# Altium footprint library SnapEDApcb.PcbLib: 1 footprints
Each footprint in its own frame and in the unit in brackets; x right, y up, seen from the top. Pads: shape width x height; smd on the part's side, far side on the other; paste and mask are expansions set on the pad; w line width, h text height; cw(c..) or ccw(c..) is an arc to the next point about the centre after c.
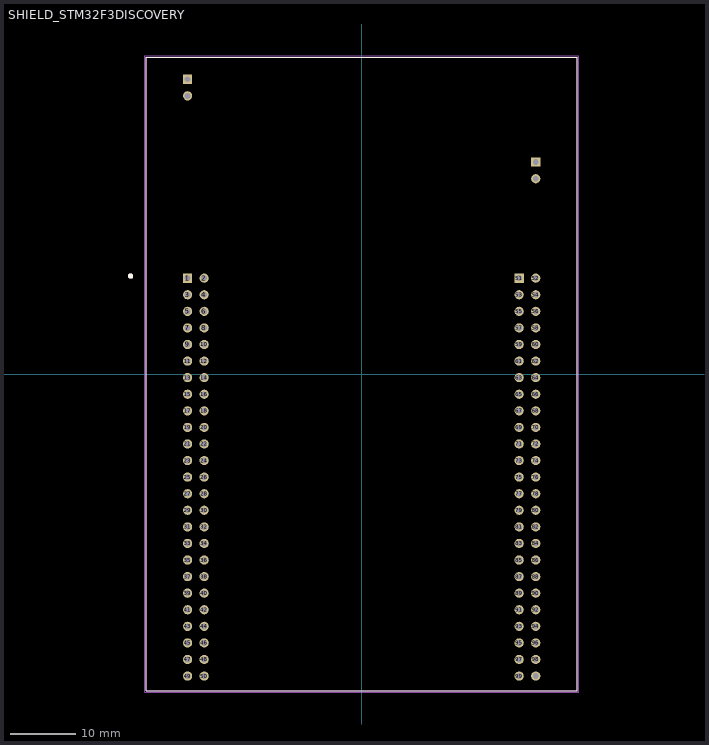
[diagram p0: the footprint, top view; thin cyan lines are the x and y axes]

## SHIELD_STM32F3DISCOVERY [mm]
pads (104):
  rect 1.408x1.408 hole 0.9: 1(-26.67,14.68) 51(24.13,14.68) 101(-26.67,45.16) 103(26.67,32.46)
  round 1.408 hole 0.9: 2(-24.13,14.68) 3(-26.67,12.14) 4(-24.13,12.14) 5(-26.67,9.6) 6(-24.13,9.6) 7(-26.67,7.06) 8(-24.13,7.06) 9(-26.67,4.52) 10(-24.13,4.52) 11(-26.67,1.98) 12(-24.13,1.98) 13(-26.67,-0.56) 14(-24.13,-0.56) 15(-26.67,-3.1) 16(-24.13,-3.1) 17(-26.67,-5.64) 18(-24.13,-5.64) 19(-26.67,-8.18) 20(-24.13,-8.18) 21(-26.67,-10.72) 22(-24.13,-10.72) 23(-26.67,-13.26) 24(-24.13,-13.26) 25(-26.67,-15.8) 26(-24.13,-15.8) 27(-26.67,-18.34) 28(-24.13,-18.34) 29(-26.67,-20.88) 30(-24.13,-20.88) 31(-26.67,-23.42) 32(-24.13,-23.42) 33(-26.67,-25.96) 34(-24.13,-25.96) 35(-26.67,-28.5) 36(-24.13,-28.5) 37(-26.67,-31.04) 38(-24.13,-31.04) 39(-26.67,-33.58) 40(-24.13,-33.58) 41(-26.67,-36.12) 42(-24.13,-36.12) 43(-26.67,-38.66) 44(-24.13,-38.66) 45(-26.67,-41.2) 46(-24.13,-41.2) 47(-26.67,-43.74) 48(-24.13,-43.74) 49(-26.67,-46.28) 50(-24.13,-46.28) 52(26.67,14.68) 53(24.13,12.14) 54(26.67,12.14) 55(24.13,9.6) 56(26.67,9.6) 57(24.13,7.06) 58(26.67,7.06) 59(24.13,4.52) 60(26.67,4.52) 61(24.13,1.98) 62(26.67,1.98) 63(24.13,-0.56) 64(26.67,-0.56) 65(24.13,-3.1) 66(26.67,-3.1) 67(24.13,-5.64) 68(26.67,-5.64) 69(24.13,-8.18) 70(26.67,-8.18) 71(24.13,-10.72) 72(26.67,-10.72) 73(24.13,-13.26) 74(26.67,-13.26) 75(24.13,-15.8) 76(26.67,-15.8) 77(24.13,-18.34) 78(26.67,-18.34) 79(24.13,-20.88) 80(26.67,-20.88) 81(24.13,-23.42) 82(26.67,-23.42) 83(24.13,-25.96) 84(26.67,-25.96) 85(24.13,-28.5) 86(26.67,-28.5) 87(24.13,-31.04) 88(26.67,-31.04) 89(24.13,-33.58) 90(26.67,-33.58) 91(24.13,-36.12) 92(26.67,-36.12) 93(24.13,-38.66) 94(26.67,-38.66) 95(24.13,-41.2) 96(26.67,-41.2) 97(24.13,-43.74) 98(26.67,-43.74) 99(24.13,-46.28) 100(26.67,-46.28) 102(-26.67,42.62) 104(26.67,29.92)
Top Overlay:
  circle w0.4: c-35.4,15 r0.2
  lines w0.127: -33,-48.5 -33,48.5 33,48.5 33,-48.5 -33,-48.5
Mechanical 13:
  circle w0.4: c-35.4,15 r0.2
  lines w0.127: -33,-48.5 -33,48.5 33,48.5 33,-48.5 -33,-48.5
Mechanical 15:
  lines w0.05: -33.25,-48.75 -33.25,48.75 33.25,48.75 33.25,-48.75 -33.25,-48.75